# EAGLE library part NODEMCU_V3_SILABS (library treser_lib)
ESP8266 Board
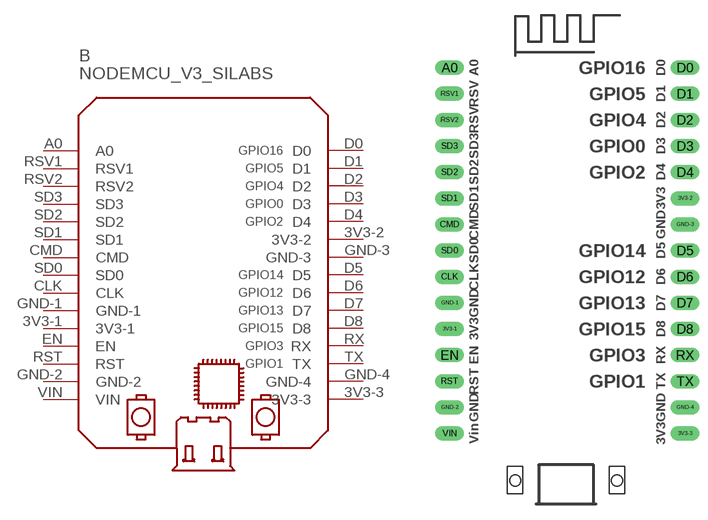
[diagram p5: symbol with the pads of NODEMCU-V3-SILABS; footprint NODEMCU-V3-SILABS]

Designator prefix B

## NODEMCU_V3_SILABS  [NODEMCU-V3-SILABS]
3V3-1  3V3-1
3V3-2  3V3-2
3V3-3  3V3-3
A0  A0
CLK  CLK
CMD  CMD
D0  D0
D1  D1
D2  D2
D3  D3
D4  D4
D5  D5
D6  D6
D7  D7
D8  D8
EN  EN
GND-1  GND-1
GND-2  GND-2
GND-3  GND-3
GND-4  GND-4
RST  RST
RSV1  RSV1
RSV2  RSV2
RX  RX
SD0  SD0
SD1  SD1
SD2  SD2
SD3  SD3
TX  TX
VIN  VIN

## Footprint NODEMCU-V3-SILABS (pad centres in mm)
drill 0.9 long: 3V3-1 1.27,16.51; 3V3-2 24.13,29.21; 3V3-3 24.13,6.35; A0 1.27,41.91; CLK 1.27,21.59; CMD 1.27,26.67; D0 24.13,41.91; D1 24.13,39.37; D2 24.13,36.83; D3 24.13,34.29; D4 24.13,31.75; D5 24.13,24.13; D6 24.13,21.59; D7 24.13,19.05; D8 24.13,16.51; EN 1.27,13.97; GND-1 1.27,19.05; GND-2 1.27,8.89; GND-3 24.13,26.67; GND-4 24.13,8.89; RST 1.27,11.43; RSV1 1.27,39.37; RSV2 1.27,36.83; RX 24.13,13.97; SD0 1.27,24.13; SD1 1.27,29.21; SD2 1.27,31.75; SD3 1.27,34.29; TX 24.13,11.43; VIN 1.27,6.35